# EAGLE library part BQ27510_DRZ_12 (library BQ27510)
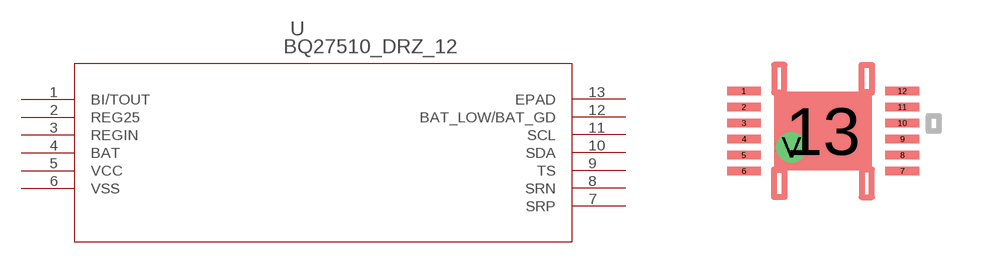
[diagram p0: symbol with the pads of DRZ12_1P95X2P45; footprint DRZ12_1P95X2P45]

Designator prefix U

## BQ27510_DRZ_12 (DATASHEETURL: Unknown; DESCRIPTION: Unknown; FAMILY_NAME: Unknown; GENERIC_PART_NUMBER: BQ27510; INDUSTRY_STD_PKG_TYPE: Unknown; MANUFACTURER: Texas Instruments; PACKAGE_DESIGNATOR: DRZ; PIN_COUNT: 12)  [DRZ12_1P95X2P45]
1  BI/TOUT
2  REG25  pwr
3  REGIN  pwr
4  BAT  in
5  VCC  pwr
6  VSS  pwr
7  SRP  in
8  SRN  in
9  TS  in
10  SDA
11  SCL  in
12  BAT_LOW/BAT_GD  out
13  EPAD  pwr

## Footprint DRZ12_1P95X2P45 (pad centres in mm)
smd 0.838 x 0.203: 1 -1.981,1; 2 -1.981,0.6; 3 -1.981,0.2; 4 -1.981,-0.2; 5 -1.981,-0.6; 6 -1.981,-1; 7 1.981,-1; 8 1.981,-0.6; 9 1.981,-0.2; 10 1.981,0.2; 11 1.981,0.6; 12 1.981,1
smd 2.438 x 1.956: 13 0,0
drill 0.254: V -0.787,-0.406